# EAGLE library part TSS-106-01-L-D (library TSS-106-01-L-D)
.100" Shrouded Terminal Strip Source: Datasheet <https://componentsearchengine.com/Datasheets/1/TSS-106-01-L-D.pdf>
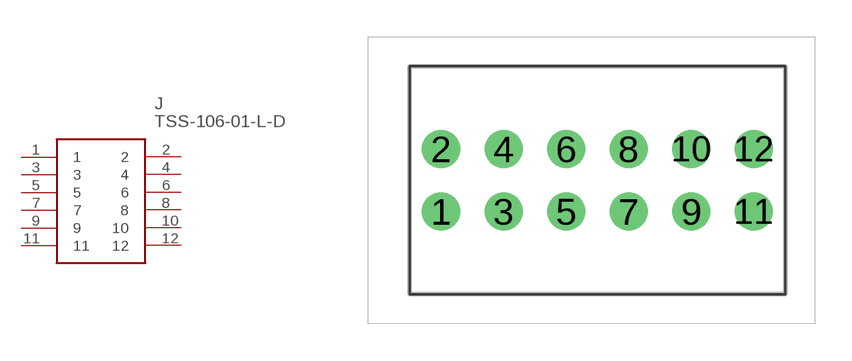
[diagram p0: symbol with the pads of TSS-106-XX-YYY; footprint TSS-106-XX-YYY]

Designator prefix J

## TSS-106-01-L-D (Description: .100" Shrouded Terminal Strip; Height: mm; Manufacturer_Name: SAMTEC; Manufacturer_Part_Number: TSS-106-01-L-D; Mouser_Part_Number: 200-TSS10601LD; Mouser_Price-Stock: https://www.mouser.com/Search/Refine.aspx?Keyword=200-TSS10601LD)  [TSS-106-XX-YYY]
1  1
2  2
3  3
4  4
5  5
6  6
7  7
8  8
9  9
10  10
11  11
12  12

## Footprint TSS-106-XX-YYY (pad centres in mm)
TSS-106-XX-YYY-D
drill 1.02 pad 1.55: 1 0,0; 2 0,2.54; 3 2.54,0; 4 2.54,2.54; 5 5.08,0; 6 5.08,2.54; 7 7.62,0; 8 7.62,2.54; 9 10.16,0; 10 10.16,2.54; 11 12.7,0; 12 12.7,2.54